# EAGLE library part TLV272CD (library dummy-load)
Check prices <https://pricing.snapeda.com/parts/TLV272CD/Texas%20Instruments/view-part?ref=eda>
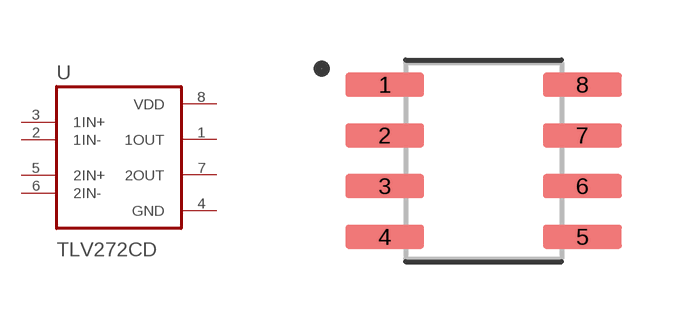
[diagram p0: symbol with the pads of SOIC127P599X175-8N; footprint SOIC127P599X175-8N]

Designator prefix U

## TLV272CD (AVAILABILITY: Warning; DESCRIPTION: Dual 16V, 3MHz, 550-uA/ch, rail-to-rail output op amp 8-SOIC 0 to 70; MF: Texas Instruments; MP: TLV272CD; PACKAGE: SOIC-8 Texas Instruments; PRICE: None; PURCHASE-URL: https://pricing.snapeda.com/search/part/TLV272CD/?ref=eda)  [SOIC127P599X175-8N]
1  1OUT  out
2  1IN-  in
3  1IN+  in
4  GND  pwr
5  2IN+  in
6  2IN-  in
7  2OUT  out
8  VDD  pwr

## Footprint SOIC127P599X175-8N (pad centres in mm)
smd 1.97 x 0.6: 1 -2.47,1.905; 2 -2.47,0.635; 3 -2.47,-0.635; 4 -2.47,-1.905; 5 2.47,-1.905; 6 2.47,-0.635; 7 2.47,0.635; 8 2.47,1.905